# Altium footprint library CAP_TH_RAD_7_5MM.PcbLib: 2 footprints
Each footprint in its own frame and in the unit in brackets; x right, y up, seen from the top. Pads: shape width x height; smd on the part's side, far side on the other; paste and mask are expansions set on the pad; w line width, h text height; cw(c..) or ccw(c..) is an arc to the next point about the centre after c.
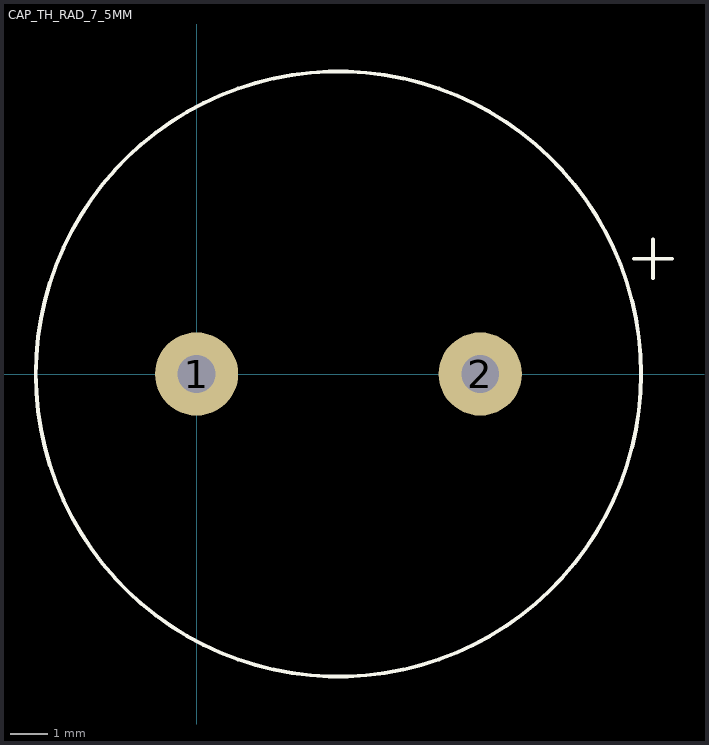
[diagram p0: the footprints below, top view; thin cyan lines are the x and y axes]

## CAP_TH_RAD_7_5MM [mm]
pads (2):
  round 2.2 hole 1: 1(0,0) 2(7.5,0)
Top Overlay:
  circle w0.1: c3.75,0 r8
  lines w0.1: 11.557,3.048 12.573,3.048 ; 12.065,2.54 12.065,3.556

## PCBComponent_1 [mm]